# Altium schematic symbol library ICs.SchLib: 3 symbols
Pins are listed as number, name and electrical type; pins without a type are passive.

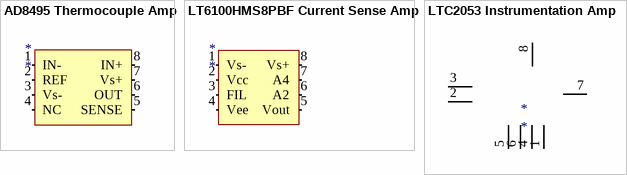
[diagram p0: symbols AD8495 Thermocouple Amp to LTC2053 Instrumentation Amp]

## AD8495 Thermocouple Amp
designator *
pins: 1 IN- (in), 2 REF (in), 3 Vs- (in), 4 NC (in), 5 SENSE (in), 6 OUT (in), 7 Vs+ (in), 8 IN+ (in)

## LT6100HMS8PBF Current Sense Amp
designator *
High Side Current Sense Amp
pins: 1 Vs- (in), 2 Vcc (in), 3 FIL (in), 4 Vee (in), 5 Vout (in), 6 A2 (in), 7 A4 (in), 8 Vs+ (in)

## LTC2053 Instrumentation Amp
designator *
pins: 1, 2, 3, 4, 5, 6, 7, 8